# Altium footprint library PCBLib.PcbLib: 19 footprints (part 1 of 2)
Each footprint in its own frame and in the unit in brackets; x right, y up, seen from the top. Pads: shape width x height; smd on the part's side, far side on the other; paste and mask are expansions set on the pad; w line width, h text height; cw(c..) or ccw(c..) is an arc to the next point about the centre after c.
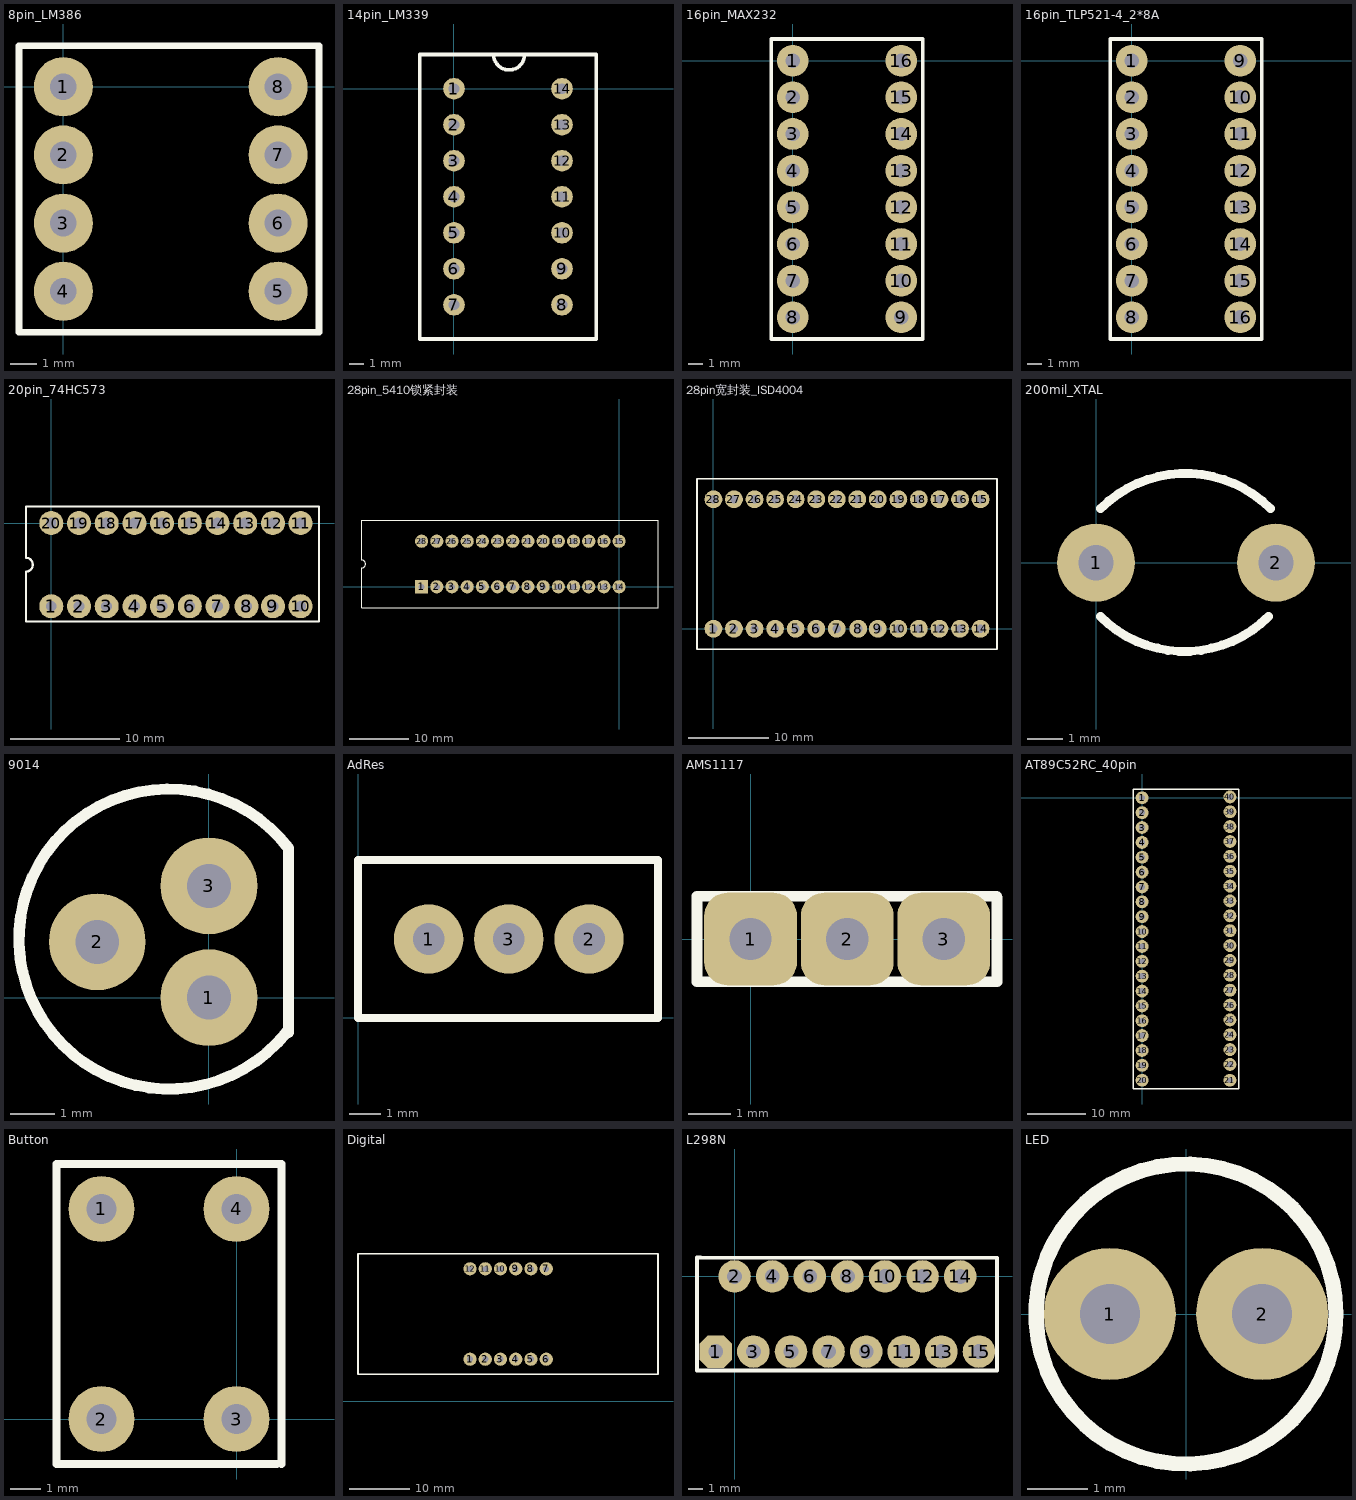
[diagram p0: the footprints below, top view; thin cyan lines are the x and y axes]

## 8pin_LM386 [mm]
pads (8):
  round 2.2 hole 1: 1(0,0) 2(0,-2.54) 3(0,-5.08) 4(0,-7.62) 5(8,-7.62) 6(8,-5.08) 7(8,-2.54) 8(8,0)
Top Overlay:
  lines w0.254: -1.651,-9.144 -1.651,1.524 9.525,1.524 9.525,-9.144 -1.651,-9.144

## 14pin_LM339 [mil]
pads (14):
  round 60 hole 30: 1(0,0) 2(0,-100) 3(0,-200) 4(0,-300) 5(0,-400) 6(0,-500) 7(0,-600) 8(300,-600) 9(300,-500) 10(300,-400) 11(300,-300) 12(300,-200) 13(300,-100) 14(300,0)
Top Overlay:
  lines w10: 110,95 ccw(c153.01,95) 196.02,95 ; -95,-695 -85,-695 395,-695 395,95 -95,95 -95,-685 -95,-695

## 16pin_MAX232 [mm]
pads (16):
  round 2.2 hole 1: 1(0,0) 2(0,-2.54) 3(0,-5.08) 4(0,-7.62) 5(0,-10.16) 6(0,-12.7) 7(0,-15.24) 8(0,-17.78) 9(7.5,-17.78) 10(7.5,-15.24) 11(7.5,-12.7) 12(7.5,-10.16) 13(7.5,-7.62) 14(7.5,-5.08) 15(7.5,-2.54) 16(7.5,0)
Top Overlay:
  lines w0.254: -1.5,-19.28 9,-19.28 9,1.5 -1.5,1.5 -1.5,-19.28

## 16pin_TLP521-4_2*8A [mm]
pads (16):
  round 2.2 hole 1: 1(0,0) 2(0,-2.54) 3(0,-5.08) 4(0,-7.62) 5(0,-10.16) 6(0,-12.7) 7(0,-15.24) 8(0,-17.78) 9(7.5,0) 10(7.5,-2.54) 11(7.5,-5.08) 12(7.5,-7.62) 13(7.5,-10.16) 14(7.5,-12.7) 15(7.5,-15.24) 16(7.5,-17.78)
Top Overlay:
  lines w0.254: -1.5,-19.28 -1.5,1.5 9,1.5 9,-19.28 -1.5,-19.28

## 20pin_74HC573 [mm]
pads (20):
  round 2.2 hole 1: 1(0,-7.62) 2(2.54,-7.62) 3(5.08,-7.62) 4(7.62,-7.62) 5(10.16,-7.62) 6(12.7,-7.62) 7(15.24,-7.62) 8(17.907,-7.62) 9(20.32,-7.62) 10(22.86,-7.62) 11(22.86,0) 12(20.32,0) 13(17.78,0) 14(15.24,0) 15(12.7,0) 16(10.16,0) 17(7.62,0) 18(5.08,0) 19(2.54,0) 20(0,0)
Top Overlay:
  lines w0.2: -2.325,-9.017 -2.325,-4.445 ccw(c-2.325,-3.81) -2.325,-3.175 -2.325,1.524 24.55,1.524 24.55,-9.017 -2.325,-9.017

## 28pin_5410锁紧封装 [mm]
pads (28):
  rect 2.2x2.2 hole 1 unplated: 1(-33.02,0)
  round 2.2 hole 1 unplated: 2(-30.48,0) 3(-27.94,0) 4(-25.4,0) 5(-22.86,0) 6(-20.32,0) 7(-17.78,0) 8(-15.24,0) 9(-12.7,0) 10(-10.16,0) 11(-7.62,0) 12(-5.08,0) 13(-2.54,0) 14(0,0) 15(0,7.62) 16(-2.54,7.62) 17(-5.08,7.62) 18(-7.62,7.62) 19(-10.16,7.62) 20(-12.7,7.62) 21(-15.24,7.62) 22(-17.78,7.62) 23(-20.32,7.62) 24(-22.86,7.62) 25(-25.4,7.62) 26(-27.94,7.62) 27(-30.48,7.62) 28(-33.02,7.62)
Top Overlay:
  lines w0.2: -43.02,-3.5 -43.02,3.175 ccw(c-43.02,3.81) -43.02,4.445 -43.02,11.12 6.5,11.12 6.5,-3.5 -43.02,-3.5

## 28pin宽封装_ISD4004 [mm]
pads (28):
  round 2.2 hole 1: 1(0,0) 2(2.54,0) 3(5.08,0) 4(7.62,0) 5(10.16,0) 6(12.7,0) 7(15.24,0) 8(17.907,0) 9(20.32,0) 10(22.86,0) 11(25.4,0) 12(27.94,0) 13(30.48,0) 14(33.02,0) 15(33.02,16) 16(30.48,16) 17(27.94,16) 18(25.4,16) 19(22.86,16) 20(20.32,16) 21(17.78,16) 22(15.24,16) 23(12.7,16) 24(10.16,16) 25(7.62,16) 26(5.08,16) 27(2.54,16) 28(0,16)
Top Overlay:
  lines w0.2: -2.032,-2.54 -2.032,18.542 35.052,18.542 35.052,-2.54 -2.032,-2.54

## 200mil_XTAL [mm]
pads (2):
  round 2.2 hole 1: 1(0,0) 2(5.08,0)
Top Overlay:
  lines w0.254: 0.127,-1.524 ccw(c2.497,0.846) 4.866,-1.524 ; 0.127,1.524 cw(c2.528,-0.877) 4.93,1.524

## 9014 [mm]
pads (3):
  round 2.2 hole 1: 1(0,0) 2(-2.54,1.27) 3(0,2.54)
Top Overlay:
  lines w0.254: 1.756,-0.793 cw(c-0.909,1.333) 1.807,3.394 1.807,-0.793

## AdRes [mm]
pads (3):
  round 2.2 hole 1: 1(2.235,2.5) 2(7.315,2.5) 3(4.775,2.5)
Top Overlay:
  lines w0.254: 0,0 0,5 9.5,5 9.5,0 0,0

## AMS1117 [mm]
pads (3):
  rrect50% 2.2x2.2 hole 1: 1(0,0) 2(2.29,0) 3(4.58,0)
Top Overlay:
  lines w0.254: -1.27,0.984 -1.27,-1.016 5.83,-1.016 ; -1.27,1.016 5.83,1.016 ; 5.842,-1.016 5.842,0.984

## AT89C52RC_40pin [mm]
pads (40):
  round 2.2 hole 1: 1(0,0) 2(0,-2.54) 3(0,-5.08) 4(0,-7.62) 5(0,-10.16) 6(0,-12.7) 7(0,-15.24) 8(0,-17.78) 9(0,-20.32) 10(0,-22.86) 11(0,-25.4) 12(0,-27.94) 13(0,-30.48) 14(0,-33.02) 15(0,-35.56) 16(0,-38.1) 17(0,-40.64) 18(0,-43.18) 19(0,-45.72) 20(0,-48.26) 21(15,-48.26) 22(15.01,-45.569) 23(15.01,-43.029) 24(15.01,-40.489) 25(15.01,-37.949) 26(15.01,-35.409) 27(15.01,-32.869) 28(15.01,-30.329) 29(15.01,-27.789) 30(15.01,-25.249) 31(15.01,-22.709) 32(15.01,-20.169) 33(15.01,-17.629) 34(15.01,-15.089) 35(15.01,-12.549) 36(15.01,-10.009) 37(15.01,-7.469) 38(15.01,-4.929) 39(15.01,-2.389) 40(15.01,0.151)
Top Overlay:
  lines w0.254: -1.5,-49.76 16.5,-49.76 16.5,1.5 -1.5,1.5 -1.5,-49.76

## Button [mm]
pads (4):
  round 2.2 hole 1: 1(-4.5,7) 2(-4.5,0) 3(0,0) 4(0,7)
Top Overlay:
  lines w0.254: 1.342,-1.5 -6,-1.5 -6,8.5 1.5,8.5 1.5,-1.5

## Digital [mm]
pads (12):
  round 2.2 hole 1: 1(25.146,7.032) 2(27.686,7.032) 3(30.226,7.032) 4(32.766,7.032) 5(35.306,7.032) 6(37.846,7.032) 7(37.846,22.098) 8(35.306,22.098) 9(32.766,22.098) 10(30.226,22.098) 11(27.686,22.098) 12(25.146,22.098)
Top Overlay:
  lines w0.254: 56.388,24.598 6.477,24.598 6.477,4.532 56.477,4.532 56.477,24.598

## L298N [mm]
pads (15):
  oct 2.2x2.2 hole 1: 1(-1.27,-5.08)
  round 2.2 hole 1: 2(0,0) 3(1.27,-5.08) 4(2.54,0) 5(3.81,-5.08) 6(5.08,0) 7(6.35,-5.08) 8(7.62,0) 9(8.89,-5.08) 10(10.16,0) 11(11.43,-5.08) 12(12.7,0) 13(13.97,-5.08) 14(15.24,0) 15(16.51,-5.08)
Top Overlay:
  lines w0.254: -2.54,-6.35 -2.54,1.27 -2.286,1.27 17.729,1.245 17.729,-6.35 -2.286,-6.35 -2.54,-6.35

## LED [mm]
pads (2):
  round 2.2 hole 1: 1(-1.27,0) 2(1.27,0)
Top Overlay:
  circle w0.254: c0,0 r2.5